# EAGLE library part IR2184PBF (library International_Rectifier_By_element14_Batch_1)
HALF-BRIDGE DRIVER
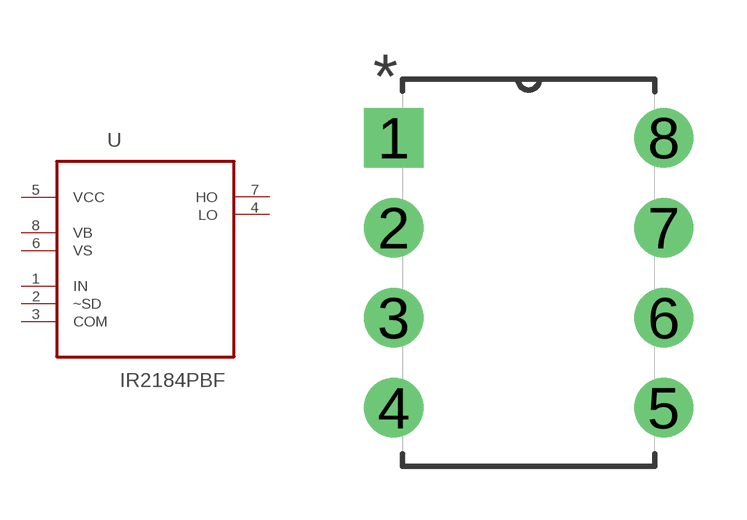
[diagram p74: symbol with the pads of DIP254P762X533-8; footprint DIP254P762X533-8]

Designator prefix U

## IR2184PBF (MPN: IR2184PBF; OC_FARNELL: 1023249; OC_NEWARK: 19K8450; PACKAGE: PDIP; SUPPLIER: INTERNATIONAL RECTIFIER)  [DIP254P762X533-8]
1  IN  in
2  ~SD  in
3  COM  in
4  LO  out
5  VCC  pwr
6  VS  pwr
7  HO  out
8  VB  pwr

## Footprint DIP254P762X533-8 (pad centres in mm)
drill 1.118 square: 1 -7.62,7.62
drill 1.118: 2 -7.62,5.08; 3 -7.62,2.54; 4 -7.62,0; 5 0,0; 6 0,2.54; 7 0,5.08; 8 0,7.62